# Altium footprint library SMD Transformer.PcbLib: 4 footprints
Each footprint in its own frame and in the unit in brackets; x right, y up, seen from the top. Pads: shape width x height; smd on the part's side, far side on the other; paste and mask are expansions set on the pad; w line width, h text height; cw(c..) or ccw(c..) is an arc to the next point about the centre after c.
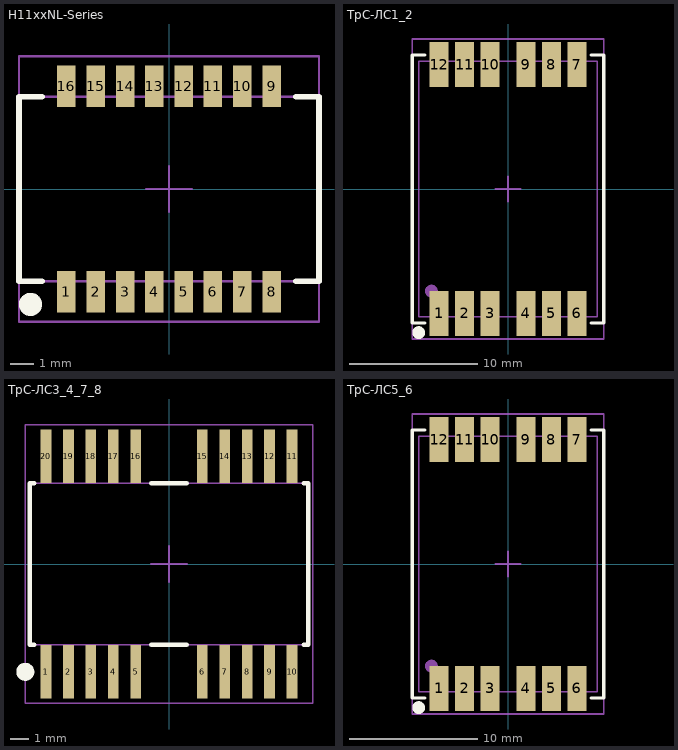
[diagram p0: the footprints below, top view; thin cyan lines are the x and y axes]

## H11xxNL-Series [mm]
height 5.97
pads (16):
  rect 0.8x1.8 smd: 1(-4.445,-4.445) 2(-3.175,-4.445) 3(-1.905,-4.445) 4(-0.635,-4.445) 5(0.635,-4.445) 6(1.905,-4.445) 7(3.175,-4.445) 8(4.445,-4.445) 9(4.445,4.445) 10(3.175,4.445) 11(1.905,4.445) 12(0.635,4.445) 13(-0.635,4.445) 14(-1.905,4.445) 15(-3.175,4.445) 16(-4.445,4.445)
Top Overlay:
  circle w0.5: c-6,-5 r0.25
  lines w0.25: -5.5,-4 -6.5,-4 -6.5,4 -5.5,4 ; 5.5,-4 6.5,-4 6.5,4 5.5,4
Mechanical 7:
  lines w0.05: -6.5,-5.75 -6.5,5.75 6.5,5.75 6.5,-5.75 -6.5,-5.75
  text ".Designator" at -2,0 h1.5
Mechanical 13:
  lines w0.1: -6.5,-4 -6.5,4 6.5,4 6.5,-4 -6.5,-4
Mechanical 15:
  lines w0.1: -1,0 1,0 ; 0,-1 0,1 ; -6.5,-5.75 6.5,-5.75 6.5,5.75 -6.5,5.75 -6.5,-5.75
3D body "User Library-smt4.step": height 5.1, standoff 0, extent -6.35,-4.7 6.35,4.7

## ТрС-ЛС1_2 [mm] "ЕСКФ.671152.004"
height 5
pads (12):
  rect 1.5x3.5 smd: 1(-5.4,-9.75) 2(-3.4,-9.75) 3(-1.4,-9.75) 4(1.4,-9.75) 5(3.4,-9.75) 6(5.4,-9.75) 7(5.4,9.75) 8(3.4,9.75) 9(1.4,9.75) 10(-1.4,9.75) 11(-3.4,9.75) 12(-5.4,9.75)
Top Overlay:
  circle w0.5: c-7,-11.25 r0.25
  lines w0.25: -6.5,-10.5 -7.5,-10.5 -7.5,10.5 -6.5,10.5 ; 6.5,-10.5 7.5,-10.5 7.5,10.5 6.5,10.5
Mechanical 7:
  lines w0.05: -7.5,-11.75 -7.5,11.75 7.5,11.75 7.5,-11.75 -7.5,-11.75
  text ".Designator" at -1.5,0 h1.5
Mechanical 13:
  circle w0.5: c-6,-8 r0.25
  lines w0.1: -7,-10 7,-10 7,10 -7,10 -7,-10
Mechanical 15:
  lines w0.125: -1,0 1,0 ; 0,-1 0,1 ; -7.5,-11.75 7.5,-11.75 7.5,11.75 -7.5,11.75 -7.5,-11.75
3D body: height 1, standoff 1, extent -6.749,-9.5 -6.251,-9.001
3D body: height 1, standoff 0, extent -7,-10 7,10
3D body: height 1.01, standoff 0, extent -5.875,9.75 -4.625,10.025
3D body: height 1.01, standoff 0, extent -3.875,9.75 -2.625,10.025
3D body: height 1.01, standoff 0, extent -1.875,9.75 -0.625,10.025
3D body: height 1.01, standoff 0, extent 0.625,9.75 1.875,10.025
3D body: height 1.01, standoff 0, extent 2.625,9.75 3.875,10.025
3D body: height 1.01, standoff 0, extent 4.625,9.75 5.875,10.025
3D body: height 1.01, standoff 0, extent -5.875,-10.025 -4.625,-9.75
3D body: height 1.01, standoff 0, extent -3.875,-10.025 -2.625,-9.75
3D body: height 1.01, standoff 0, extent -1.875,-10.025 -0.625,-9.75
3D body: height 1.01, standoff 0, extent 4.625,-10.025 5.875,-9.75
3D body: height 1.01, standoff 0, extent 2.625,-10.025 3.875,-9.75
3D body: height 1.01, standoff 0, extent 0.625,-10.025 1.875,-9.75
3D body: height 5, standoff 1, extent -6.5,-8.5 6.5,8.5

## ТрС-ЛС3_4_7_8 [mm] "ЕСКФ.671152.006"
height 5.97
pads (20):
  rect 0.6x3 smd: 1(-6.85,-6) 2(-5.6,-6) 3(-4.35,-6) 4(-3.1,-6) 5(-1.85,-6) 6(1.85,-6) 7(3.1,-6) 8(4.35,-6) 9(5.6,-6) 10(6.85,-6) 11(6.85,6) 12(5.6,6) 13(4.35,6) 14(3.1,6) 15(1.85,6) 16(-1.85,6) 17(-3.1,6) 18(-4.35,6) 19(-5.6,6) 20(-6.85,6)
Top Overlay:
  circle w0.5: c-8,-6 r0.25
  lines w0.25: -7.5,-4.5 -7.75,-4.5 -7.75,4.5 -7.5,4.5 ; -1,-4.5 1,-4.5 ; -1,4.5 1,4.5 ; 7.5,-4.5 7.75,-4.5 7.75,4.5 7.5,4.5
Mechanical 7:
  lines w0.05: -8,-7.75 -8,7.75 8,7.75 8,-7.75 -8,-7.75
  text ".Designator" at -1.5,0 h1.5
Mechanical 13:
  lines w0.1: -7.75,-4.5 7.75,-4.5 7.75,4.5 -7.75,4.5 -7.75,-4.5
Mechanical 15:
  lines w0.1: -1,0 1,0 ; 0,-1 0,1 ; -8,-7.75 -8,7.75 8,7.75 8,-7.75 -8,-7.75
3D body: height 10.5, standoff 0.01, extent -7.75,-4.5 7.75,4.5

## ТрС-ЛС5_6 [mm] "ЕСКФ.671152.007"
height 5
pads (12):
  rect 1.5x3.5 smd: 1(-5.4,-9.75) 2(-3.4,-9.75) 3(-1.4,-9.75) 4(1.4,-9.75) 5(3.4,-9.75) 6(5.4,-9.75) 7(5.4,9.75) 8(3.4,9.75) 9(1.4,9.75) 10(-1.4,9.75) 11(-3.4,9.75) 12(-5.4,9.75)
Top Overlay:
  circle w0.5: c-7,-11.25 r0.25
  lines w0.25: -6.5,-10.5 -7.5,-10.5 -7.5,10.5 -6.5,10.5 ; 6.5,-10.5 7.5,-10.5 7.5,10.5 6.5,10.5
Mechanical 7:
  lines w0.05: -7.5,-11.75 7.5,-11.75 7.5,11.75 -7.5,11.75 -7.5,-11.75
  text ".Designator" at -1.5,0 h1.5
Mechanical 13:
  circle w0.5: c-6,-8 r0.25
  lines w0.1: -7,-10 7,-10 7,10 -7,10 -7,-10
Mechanical 15:
  lines w0.125: -1,0 1,0 ; 0,-1 0,1 ; -7.5,-11.75 7.5,-11.75 7.5,11.75 -7.5,11.75 -7.5,-11.75
3D body: height 1, standoff 1, extent -6.749,-9.5 -6.251,-9.001
3D body: height 1, standoff 0, extent -7,-10 7,10
3D body: height 1.01, standoff 0, extent -6.025,9.75 -4.775,10.025
3D body: height 1.01, standoff 0, extent -4.025,9.75 -2.775,10.025
3D body: height 1.01, standoff 0, extent -2.025,9.75 -0.775,10.025
3D body: height 1.01, standoff 0, extent 0.775,9.75 2.025,10.025
3D body: height 1.01, standoff 0, extent 2.775,9.75 4.025,10.025
3D body: height 1.01, standoff 0, extent 4.775,9.75 6.025,10.025
3D body: height 1.01, standoff 0, extent -6.025,-10.025 -4.775,-9.75
3D body: height 1.01, standoff 0, extent -4.025,-10.025 -2.775,-9.75
3D body: height 1.01, standoff 0, extent -2.025,-10.025 -0.775,-9.75
3D body: height 1.01, standoff 0, extent 4.775,-10.025 6.025,-9.75
3D body: height 1.01, standoff 0, extent 2.775,-10.025 4.025,-9.75
3D body: height 1.01, standoff 0, extent 0.775,-10.025 2.025,-9.75
3D body: height 5, standoff 1, extent -6.5,-8.5 6.5,8.5